# Altium footprint library SON127P600X80_HS-9N.PcbLib: 1 footprints
Each footprint in its own frame and in the unit in brackets; x right, y up, seen from the top. Pads: shape width x height; smd on the part's side, far side on the other; paste and mask are expansions set on the pad; w line width, h text height; cw(c..) or ccw(c..) is an arc to the next point about the centre after c.
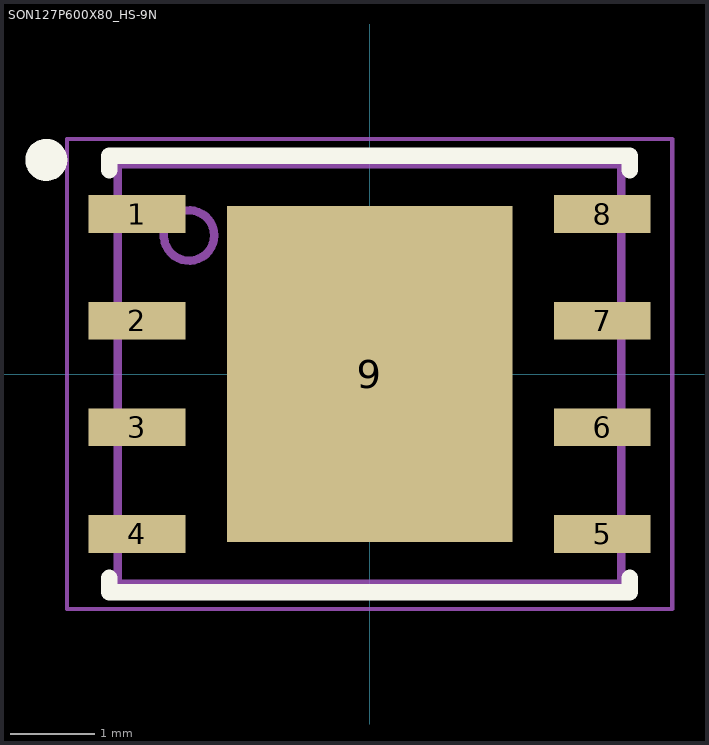
[diagram p0: the footprint, top view; thin cyan lines are the x and y axes]

## SON127P600X80_HS-9N [mm] "SON, 8-Leads, Body 5.00x6.00mm, Pitch 1.27mm, Thermal Pad 4.00x3.40mm, IPC Medium Density"
height 0.8
pads (9):
  rect 1.15x0.45 smd: 1(-2.77,1.905) 2(-2.77,0.635) 3(-2.77,-0.635) 4(-2.77,-1.905) 5(2.77,-1.905) 6(2.77,-0.635) 7(2.77,0.635) 8(2.77,1.905)
  rect 3.4x4 smd paste-1.7: 9(0,0)
Top Overlay:
  circle w0.25: c-3.85,2.55 r0.125
  lines w0.2: -3.1,-2.43 -3.1,-2.6 3.1,-2.6 3.1,-2.43 ; -3.1,2.43 -3.1,2.6 3.1,2.6 3.1,2.43
Top Paste:
  rectangle: -1.595,0.768 -0.665,1.898
  rectangle: -1.595,-0.562 -0.665,0.568
  rectangle: -1.595,-1.898 -0.665,-0.768
  rectangle: -0.465,0.768 0.465,1.898
  rectangle: -0.465,-0.562 0.465,0.568
  rectangle: -0.465,-1.898 0.465,-0.768
  rectangle: 0.665,0.768 1.595,1.898
  rectangle: 0.665,-0.568 1.595,0.562
  rectangle: 0.668,-1.896 1.598,-0.766
Mechanical 7:
  circle w0.1: c-2.15,1.65 r0.3
  lines w0.1: -3,-2.5 -3,2.5 3,2.5 3,-2.5 -3,-2.5
  text ".Designator" at -0.5,-0.175 h0.38
Mechanical 15:
  lines w0.05: -3.605,-2.8 -3.605,2.8 3.605,2.8 3.605,-2.8 -3.605,-2.8
  lines w0.1: -0.5,0 0.5,0 ; 0,-0.5 0,0.5
3D body "SON127P600X80_HS-9N.step": height 0.8, standoff 0, extent -3.051,-2.55 3.051,2.55